# EAGLE library part 691317510008 (library Wurth_Terminal_Blocks_Connectors_rev15d)
WR-TBL Serie 3175 - 5.08mm Close Horizontal PCB Header with Flanges , 8 pins=>Code : WR-TBL_3175_691317510008 <http://katalog.we-online.de/media/images/eican/WR-TBL_3175_691317510003_pf2.jpg> Details see: http://katalog.we-online.de/en/em/691_317_510_0xx Created 2014-06-25, Karrer Zheng 2014 (C) Würth Elektronik
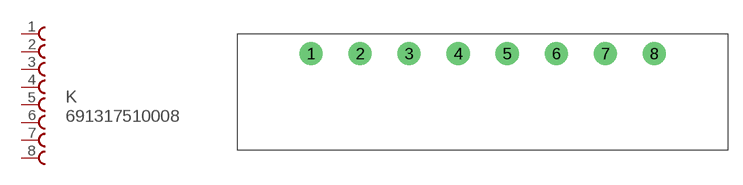
[diagram p151: symbol with the pads of 691317510008; footprint 691317510008]

Designator prefix K

## 691317510008  [691317510008]
1  1  pas
2  2  pas
3  3  pas
4  4  pas
5  5  pas
6  6  pas
7  7  pas
8  8  pas

## Footprint 691317510008 (pad centres in mm)
WR-TBL Serie 3175 - 5.08mm Close Horizontal PCB Header with Flanges , 8 pins
drill 1.6: 1 -5.08,0; 2 0,0; 3 5.08,0; 4 10.16,0; 5 15.24,0; 6 20.32,0; 7 25.4,0; 8 30.48,0